# Altium footprint library Resistors.PcbLib: 29 footprints (part 1 of 2)
Each footprint in its own frame and in the unit in brackets; x right, y up, seen from the top. Pads: shape width x height; smd on the part's side, far side on the other; paste and mask are expansions set on the pad; w line width, h text height; cw(c..) or ccw(c..) is an arc to the next point about the centre after c.
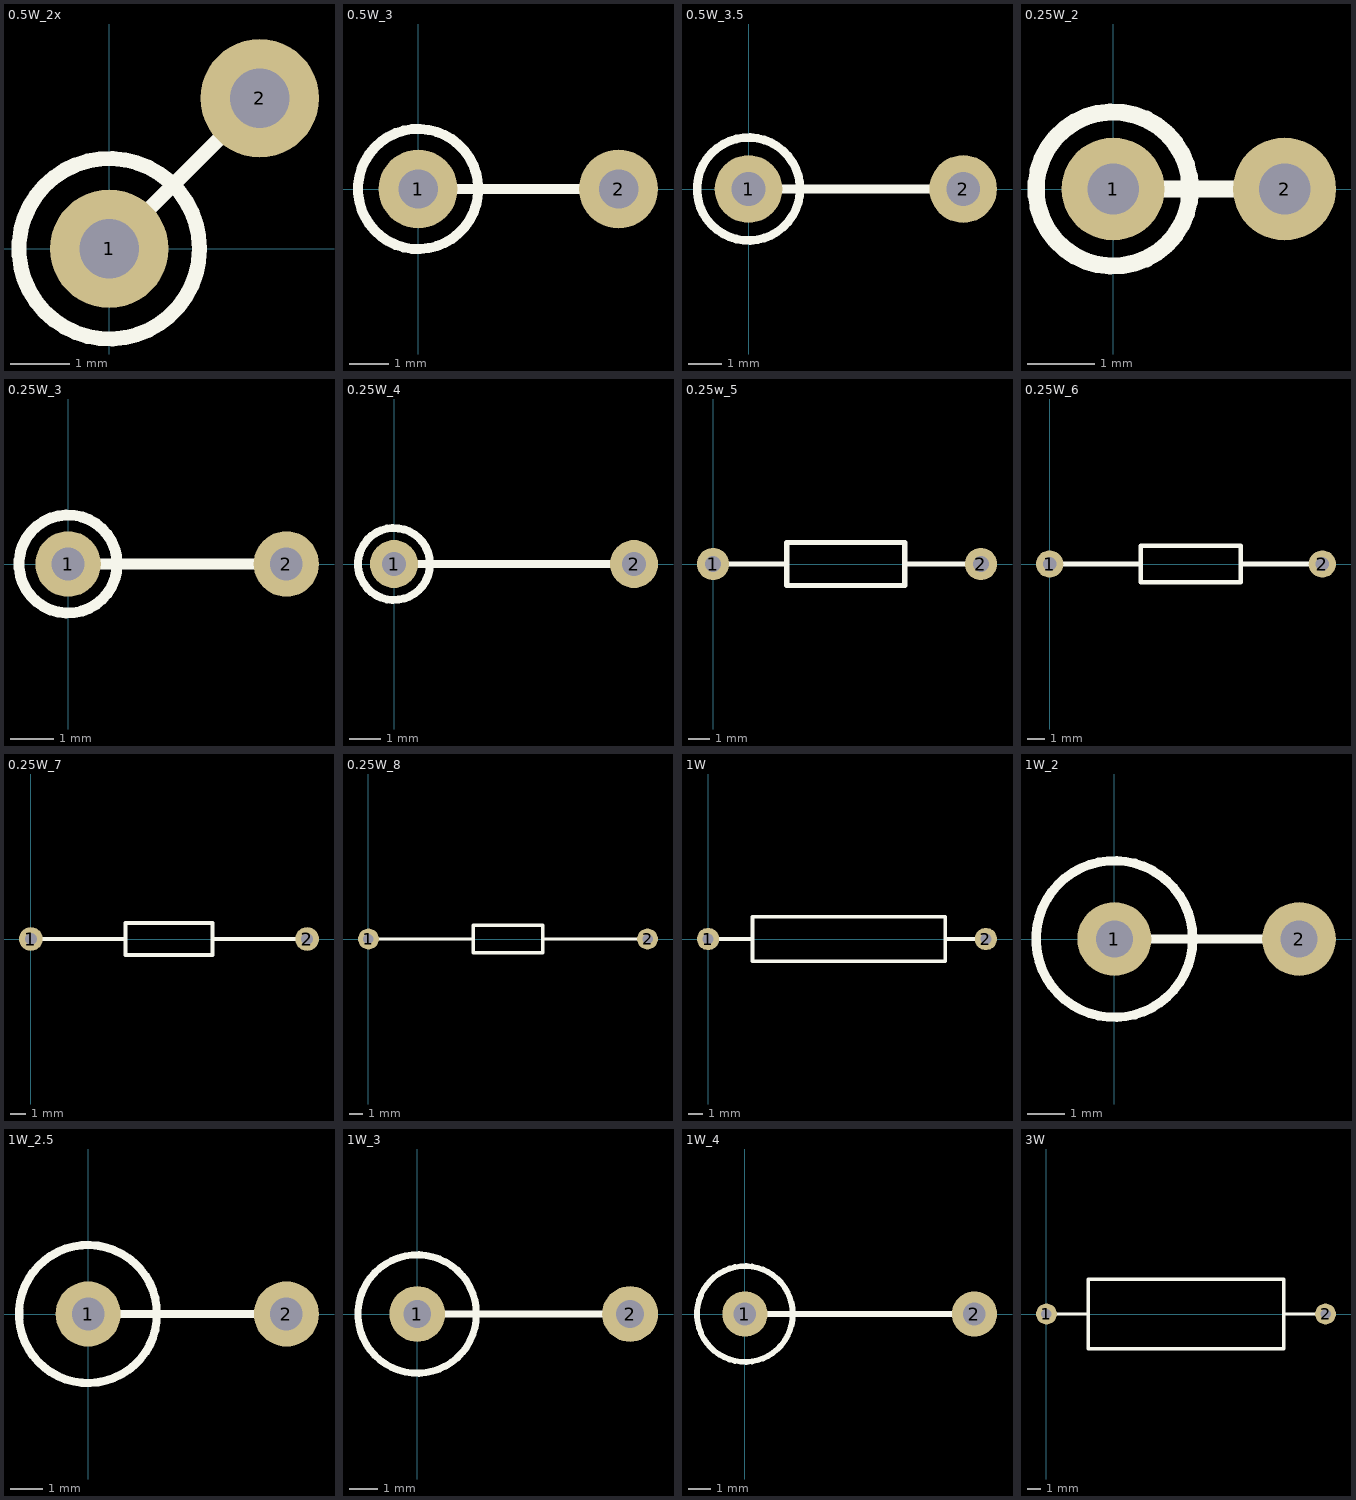
[diagram p0: the footprints below, top view; thin cyan lines are the x and y axes]

## 0.5W_2x [mm]
pads (2):
  round 2 hole 1: 1(0,0) 2(2.54,2.54)
Top Overlay:
  circle w0.254: c0,0 r1.524
  lines w0.254: 0,0 2.54,2.54

## 0.5W_3 [mm]
pads (2):
  round 2 hole 1: 1(0,0) 2(5.08,0)
Top Overlay:
  circle w0.254: c0,0 r1.524
  lines w0.254: 0,0 5.08,0

## 0.5W_3.5 [mm]
pads (2):
  round 2 hole 1: 1(0,0) 2(6.35,0)
Top Overlay:
  circle w0.254: c0,0 r1.524
  lines w0.254: 0,0 6.35,0

## 0.25W_2 [mil]
pads (2):
  round 60 hole 30: 1(0,0) 2(100,0)
Top Overlay:
  circle w10: c0,0 r45
  lines w10: 0,0 100,0

## 0.25W_3 [mil]
pads (2):
  round 60 hole 30: 1(0,0) 2(200,0)
Top Overlay:
  circle w10: c0,0 r45
  lines w10: 0,0 200,0

## 0.25W_4 [mil]
pads (2):
  round 60 hole 30: 1(0,0) 2(300,0)
Top Overlay:
  circle w10: c0,0 r45
  lines w10: 0,0 300,0

## 0.25w_5 [mil]
pads (2):
  round 60 hole 30: 1(0,0) 2(500,0)
Top Overlay:
  lines w10: 0,0 137.8,0 ; 357.8,0 500,0 ; 137.8,-40 137.8,40 357.8,40 357.8,-40 137.8,-40

## 0.25W_6 [mil]
pads (2):
  round 60 hole 30: 1(0,0) 2(600,0)
Top Overlay:
  lines w10: 0,0 200,0 ; 420,0 600,0 ; 200,-40 200,40 420,40 420,-40 200,-40

## 0.25W_7 [mil]
pads (2):
  round 60 hole 30: 1(0,0) 2(700,0)
Top Overlay:
  lines w10: 0,0 240,0 ; 460,0 700,0 ; 240,-40 240,40 460,40 460,-40 240,-40

## 0.25W_8 [mil]
pads (2):
  round 60 hole 30: 1(0,0) 2(800,0)
Top Overlay:
  lines w10: 0,0 300,0 ; 500,0 800,0 ; 300,-40 500,-40 500,40 300,40 300,-40

## 1W [mil]
pads (2):
  round 60 hole 30: 1(0,0) 2(750,0)
Top Overlay:
  lines w10: 0,0 120,0 ; 640,0 750,0 ; 120,-60 640,-60 640,60 120,60 120,-60

## 1W_2 [mm]
pads (2):
  round 2 hole 1: 1(0,0) 2(5,0)
Top Overlay:
  circle w0.254: c0,0 r2.121
  lines w0.254: 0,0 5,0

## 1W_2.5 [mm]
pads (2):
  round 2 hole 1: 1(0,0) 2(6.096,0)
Top Overlay:
  circle w0.254: c0,0 r2.121
  lines w0.254: 0,0 6.096,0

## 1W_3 [mm]
pads (2):
  round 2 hole 1: 1(0,0) 2(7.62,0)
Top Overlay:
  circle w0.254: c0,0 r2.121
  lines w0.254: 0,0 7.62,0

## 1W_4 [mm]
pads (2):
  round 2 hole 1: 1(0,0) 2(10.16,0)
Top Overlay:
  circle w0.254: c0,0 r2.121
  lines w0.254: 0,0 10.16,0

## 3W [mil]
pads (2):
  round 60 hole 30: 1(0,0) 2(800,0)
Top Overlay:
  lines w10: 0,0 120,0 ; 680,0 800,0 ; 120,-100 120,100 680,100 680,-100 120,-100